# EAGLE library part BC846BS (library AWJLEagleLib)
BC846BS. Compatible with BC847, 848
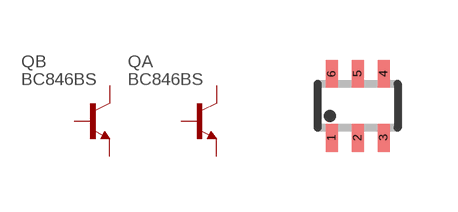
[diagram p2: symbol with the pads of SOT-363; footprint SOT-363]

Designator prefix Q; gates A=NPN B=NPN

## BC846BS"  [SOT-363]
1  A:E  pas
2  A:B  pas
3  B:C  pas
4  B:E  pas
5  B:B  pas
6  A:C  pas

## Footprint SOT-363 (pad centres in mm)
smd 0.3 x 0.7: 1 -0.65,-0.8; 2 0,-0.8; 3 0.65,-0.8; 4 0.65,0.8; 5 0,0.8; 6 -0.65,0.8